# Altium schematic symbol library Schematic_Library_V№6.SchLib: 5 symbols
Pins are listed as number, name and electrical type; pins without a type are passive.

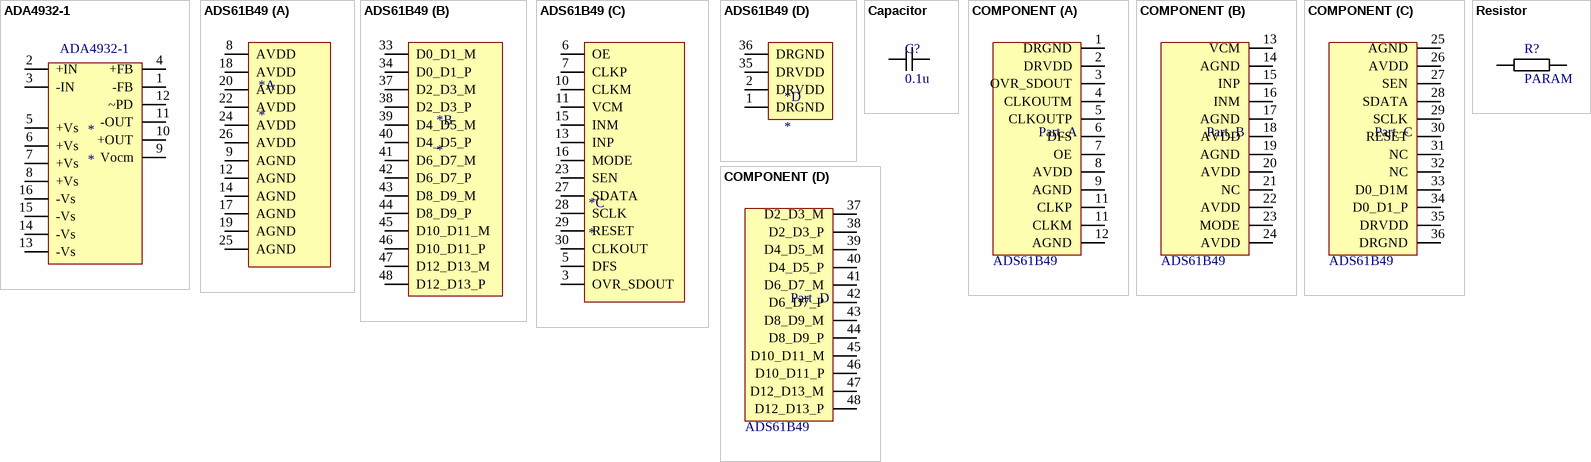
[diagram p0: symbols ADA4932-1 to Resistor]

## ADA4932-1
designator *  Name: ADA4932-1
footprint CP-16-2 (QFN, 16-Leads, Body 3,00x3,00mm, Pitch 0,50mm, Thermal Pad 1,30x1,30mm, IPC Medium Density)
pins: 1 -FB, 2 +IN, 3 -IN, 4 +FB, 5 +Vs, 6 +Vs, 7 +Vs, 8 +Vs, 9 Vocm, 10 +OUT, 11 -OUT, 12 ~PD, 13 -Vs, 14 -Vs, 15 -Vs, 16 -Vs

## ADS61B49
designator *
footprint VQFN49 (QFN, 48-Leads, Body 7,00x7,00mm, Pitch 0,50mm, Thermal Pad 5,50x5,50mm, IPC Medium Density)
part A pins: 8 AVDD, 9 AGND, 12 AGND, 14 AGND, 17 AGND, 18 AVDD, 19 AGND, 20 AVDD, 22 AVDD, 24 AVDD, 25 AGND, 26 AVDD
part B pins: 33 D0_D1_M, 34 D0_D1_P, 37 D2_D3_M, 38 D2_D3_P, 39 D4_D5_M, 40 D4_D5_P, 41 D6_D7_M, 42 D6_D7_P, 43 D8_D9_M, 44 D8_D9_P, 45 D10_D11_M, 46 D10_D11_P, 47 D12_D13_M, 48 D12_D13_P
part C pins: 3 OVR_SDOUT, 5 DFS, 6 OE, 7 CLKP, 10 CLKM, 11 VCM, 13 INP, 15 INM, 16 MODE, 23 SEN, 27 SDATA, 28 SCLK, 29 RESET, 30 CLKOUT
part D pins: 1 DRGND, 2 DRVDD, 35 DRVDD, 36 DRGND

## Capacitor
designator C?, comment 0.1u
footprint Capacitor (C?)
pins: 1, 2

## COMPONENT
designator Part_  Name: ADS61B49  (hidden comment: *)
footprint VQFN49 (QFN, 48-Leads, Body 7,00x7,00mm, Pitch 0,50mm, Thermal Pad 5,50x5,50mm, IPC Medium Density)
part A pins: 1 DRGND, 2 DRVDD, 3 OVR_SDOUT, 4 CLKOUTM, 5 CLKOUTP, 6 DFS, 7 OE, 8 AVDD, 9 AGND, 11 CLKP, 11 CLKM, 12 AGND
part B pins: 13 VCM, 14 AGND, 15 INP, 16 INM, 17 AGND, 18 AVDD, 19 AGND, 20 AVDD, 21 NC, 22 AVDD, 23 MODE, 24 AVDD
part C pins: 25 AGND, 26 AVDD, 27 SEN, 28 SDATA, 29 SCLK, 30 RESET, 31 NC, 32 NC, 33 D0_D1M, 34 D0_D1_P, 35 DRVDD, 36 DRGND
part D pins: 37 D2_D3_M, 38 D2_D3_P, 39 D4_D5_M, 40 D4_D5_P, 41 D6_D7_M, 42 D6_D7_P, 43 D8_D9_M, 44 D8_D9_P, 45 D10_D11_M, 46 D10_D11_P, 47 D12_D13_M, 48 D12_D13_P

## Resistor
designator R?, comment PARAM
footprint Resistor (R?)
pins: 1, 2